# Altium schematic symbol library BDX33C.SchLib: 1 symbol
Pins are listed as number, name and electrical type; pins without a type are passive.

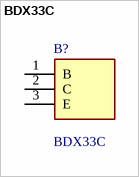
[diagram p0: symbol BDX33C]

## BDX33C
designator B?
TRANS NPN DARL 100V 10A TO220; Manufacturer_Name: onsemi; Geometry.Height: 4.7mm; Manufacturer_Part_Number: BDX33C; Mouser Part Number: 512-BDX33C; Mouser Price/Stock: https://www.mouser.co.uk/ProductDetail/onsemi-Fairchild/BDX33C?qs=ljbEvF4DwOOIABhoL0PfhQ%3D%3D; Arrow Part Number: *; Arrow Price/Stock: *; Datasheet Link: https://componentsearchengine.com/Datasheets/1/BDX33C.stp
footprint TO254P470X990X1900-3P
pins: 1 B, 2 C, 3 E